# Altium footprint library SOT-86.PcbLib: 1 footprints
Each footprint in its own frame and in the unit in brackets; x right, y up, seen from the top. Pads: shape width x height; smd on the part's side, far side on the other; paste and mask are expansions set on the pad; w line width, h text height; cw(c..) or ccw(c..) is an arc to the next point about the centre after c.
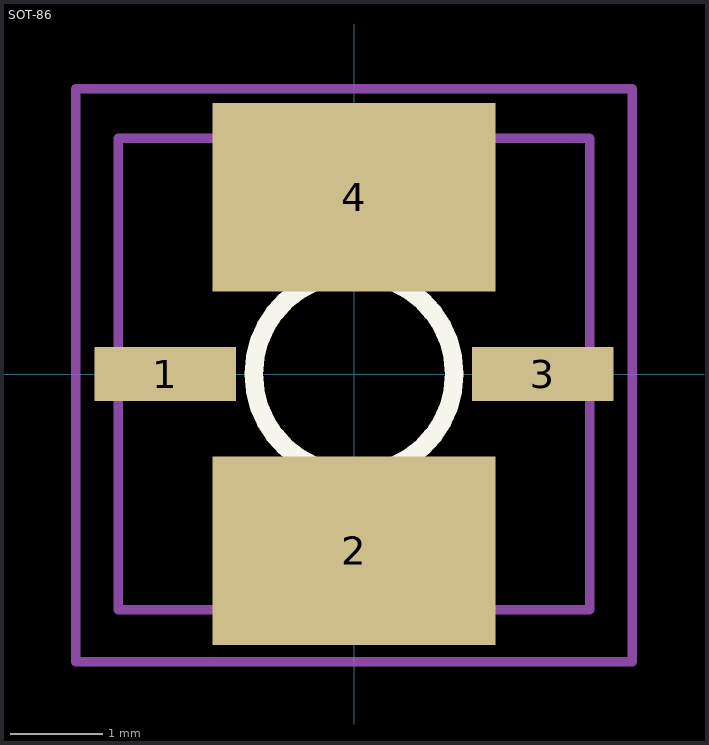
[diagram p0: the footprint, top view; thin cyan lines are the x and y axes]

## SOT-86 [mil]
height 43.31
pads (4):
  rect 60x23 smd: 1(-80,0) 3(80,0)
  rect 120x80 smd: 2(0,-75) 4(0,75)
Top Overlay:
  circle w7.87: c0,0 r42.52
Mechanical 1:
  text ".Designator" at -83.66,-57.09 h39.37
Mechanical 13:
  lines w4.02: -99.99,-100 -99.99,100 100.01,100 100.01,-100 -99.99,-100
Mechanical 15:
  lines w4.02: -118.11,-122 -118.11,121 118.11,121 118.11,-122 -118.11,-122
3D body: height 64.49, standoff -0.47, extent -99.99,-100 100.01,100